# EAGLE library part POWERBANK_POWERBANK (library Connections)
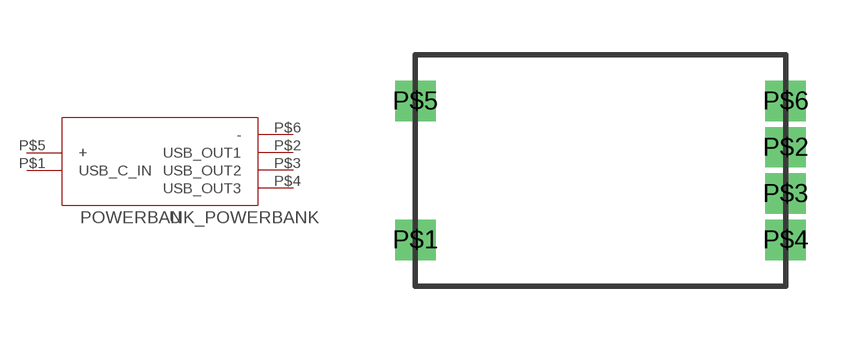
[diagram p4: symbol with the pads of POWERBANK_POWERBANK; footprint POWERBANK_POWERBANK]

Designator prefix -

## POWERBANK_POWERBANK  [POWERBANK_POWERBANK]
P$1  USB_C_IN
P$2  USB_OUT1
P$3  USB_OUT2
P$4  USB_OUT3
P$5  +
P$6  -

## Footprint POWERBANK_POWERBANK (pad centres in mm)
drill 0.6 square: P$1 -6.35,-2.54; P$2 3.81,0; P$3 3.81,-1.27; P$4 3.81,-2.54; P$5 -6.35,1.27; P$6 3.81,1.27